# EAGLE library part NS8002 (library IC)
http://www.shunheec.net.cn/guigeshu/NS8002.pdf
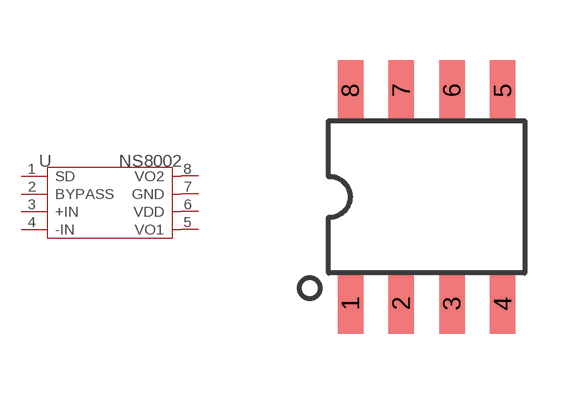
[diagram p13: symbol with the pads of SOP8; footprint SOP8]

Designator prefix U

## NS8002'SO08'  [SOP8]
1  SD
2  BYPASS
3  +IN  in
4  -IN  in
5  VO1  out
6  VDD  sup
7  GND  sup
8  VO2  out

## Footprint SOP8 (pad centres in mm)
SMALL OUTLINE PACKAGE
smd 0.635 x 1.524: 1 -1.905,-2.667; 2 -0.635,-2.667; 3 0.635,-2.667; 4 1.905,-2.667; 5 1.905,2.667; 6 0.635,2.667; 7 -0.635,2.667; 8 -1.905,2.667